# EAGLE library part 615008145221 (library WR-MJ)
WR-MJ Cat 3 Modular Jacks – THT Characteristics Shieldingless and Shielded with EMI-Spring option Optional LEDs in various sequences Vertical and Horizontal orientation Stacked and assembled configurations Tray Packaging Properties PoE++ Compatible up to 100W (IEEE 802.3bt) UL and cULus-Certified UL94-V0 insulator material Ethernet Category 3 – Category 5 under conditions Applications Networks Internet of Things mart Buildings <https://www.we-online.com/components/media/o863419v209%20multi-WR-MJTH-615002138421.jpg> Details see: www.we-online.com/en/components/products/WR_MJ_MODULAR_JACKS_THT <www.we-online.com/catalog/WR_MJ_MODULAR_JACKS_THT/?utm_source=eagle_model&utm_medium=description_link&utm_campaign=eisos_eagle> Updated by Ella Wu 2025-03-12 2025 (C) Würth Elektronik
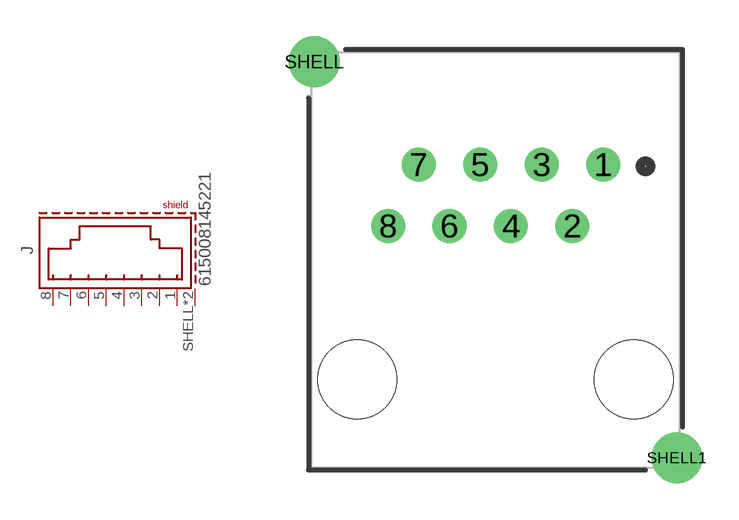
[diagram p74: symbol with the pads of 615008145221; footprint 615008145221]

Designator prefix J

## 615008145221 (APPLICATION-SYSTEM: CAT 3; DATASHEET-URL: https://www.we-online.com/redexpert/spec/615008145221?ae; EMI: No; LED: /; MOUNT: THT; PART-NUMBER: 615008145221; SIZE: Angled; TYPE: 45°; VALUE: 615008145221; XPXC: 8P8C)  [615008145221]
1  1  pas
2  2  pas
3  3  pas
4  4  pas
5  5  pas
6  6  pas
7  7  pas
8  8  pas
SHELL  SHIELD  pas
SHELL1  SHIELD  pas

## Footprint 615008145221 (pad centres in mm)
WR-MJ Modular Jack 45° Entry Shielded 8P8C Standard & Reverse Metal Post Trail, 8 pins
drill 0.9: 1 4.445,3.94; 2 3.175,1.4; 3 1.905,3.94; 4 0.635,1.4; 5 -0.635,3.94; 6 -1.905,1.4; 7 -3.175,3.94; 8 -4.445,1.4
drill 1.4: SHELL -7.5,8.2; SHELL1 7.5,-8.2
hole 3.25 at -5.715,-4.95
hole 3.25 at 5.715,-4.95